# Altium schematic symbol library 505270-2412.SchLib: 1 symbol
Pins are listed as number, name and electrical type; pins without a type are passive.

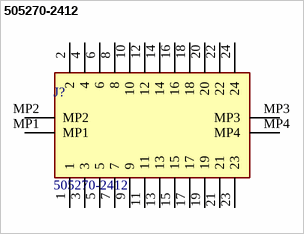
[diagram p0: symbol 505270-2412]

## 505270-2412
designator J?
Board to Board & Mezzanine Connectors SlimStack .35MM SSB RP REC 24CKT ARMRNAL; Manufacturer_Name: Molex; Geometry.Height: 0.78mm; Manufacturer_Part_Number: 505270-2412; Mouser Part Number: 538-505270-2412; Mouser Price/Stock: https://www.mouser.co.uk/ProductDetail/Molex/505270-2412?qs=byeeYqUIh0PIyQ%2FIWytBRA%3D%3D; Arrow Part Number: *; Arrow Price/Stock: *; Datasheet Link: https://www.molex.com/molex/products/part-detail/pcb_receptacles/5052702412
footprint 5052702412
pins: 1, 2, 3, 4, 5, 6, 7, 8, 9, 10, 11, 12, 13, 14, 15, 16, 17, 18, 19, 20, 21, 22, 23, 24, MP1, MP2, MP3, MP4